# Altium schematic symbol library L293D.SchLib: 1 symbol
Pins are listed as number, name and electrical type; pins without a type are passive.

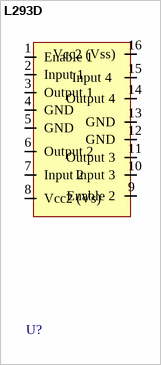
[diagram p0: symbol L293D]

## L293D
designator U?  (value not drawn)
footprint DIP16 - duplicate
pins: 1 Enable 1, 2 Input 1, 3 Output 1, 4 GND, 5 GND, 6 Output 2, 7 Input 2, 8 Vcc2 (Vs), 9 Enable 2, 10 Input 3, 11 Output 3, 12 GND, 13 GND, 14 Output 4, 15 Input 4 , 16 Vcc2 (Vss)